# Altium schematic symbol library Si2323DS.SchLib: 2 symbols
Pins are listed as number, name and electrical type; pins without a type are passive.

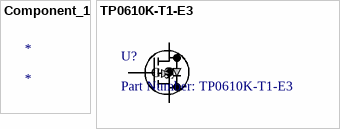
[diagram p0: symbols Component_1 to TP0610K-T1-E3]

## Component_1
designator *

## TP0610K-T1-E3
designator U?, comment Part Number: TP0610K-T1-E3
No Description Available; Vendor: Vishay; Built_By: EMA_UL_Team; Manufacturer_Part_Number: TP0610K-T1-E3; Copyright: Copyright (C) 2018 Accelerated Designs. All rights reserved; RefDes: RefDes; Type: DEV; Value: Value
footprint SOT-23_TP01
pins: 1 G, 2 S, 3 D